# EAGLE library part MCP4728A0-E/UN (library My_Library)
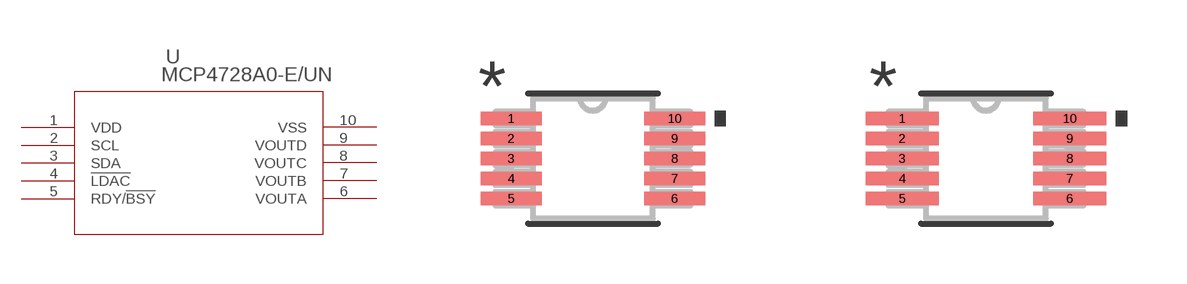
[diagram p36: symbol with the pads of MSOP10_MC_MCH; footprints MSOP10_MC_MCH, MSOP10_MC_MCH-M]

Designator prefix U

## MCP4728A0-E/UN (COPYRIGHT: Copyright (C) 2025 Ultra Librarian. All rights reserved.; MANUFACTURER_PART_NUMBER: MCP4728A0-E/UN; MFR_NAME: Microchip)  [MSOP10_MC_MCH]
1  VDD  pwr
2  SCL  in
3  SDA
4  !LDAC  in
5  RDY/!BSY  out
6  VOUTA  out
7  VOUTB  out
8  VOUTC  out
9  VOUTD  out
10  VSS  pwr

## MCP4728A0-E/UNMSOP10_MC_MCH-M (COPYRIGHT: Copyright (C) 2025 Ultra Librarian. All rights reserved.; MANUFACTURER_PART_NUMBER: MCP4728A0-E/UN; MFR_NAME: Microchip)  [MSOP10_MC_MCH-M]
Pads as for MSOP10_MC_MCH

## MCP4728A0-E/UNMSOP10_MC_MCH-L (COPYRIGHT: Copyright (C) 2025 Ultra Librarian. All rights reserved.; MANUFACTURER_PART_NUMBER: MCP4728A0-E/UN; MFR_NAME: Microchip)  [MSOP10_MC_MCH-L]
Pads as for MSOP10_MC_MCH

## Footprint MSOP10_MC_MCH (pad centres in mm)
smd 1.524 x 0.33: 1 -2.045,1; 2 -2.045,0.5; 3 -2.045,0; 4 -2.045,-0.5; 5 -2.045,-1; 6 2.045,-1; 7 2.045,-0.5; 8 2.045,0; 9 2.045,0.5; 10 2.045,1

## Footprint MSOP10_MC_MCH-M (pad centres in mm)
smd 1.829 x 0.33: 1 -2.095,1; 2 -2.095,0.5; 3 -2.095,0; 4 -2.095,-0.5; 5 -2.095,-1; 6 2.095,-1; 7 2.095,-0.5; 8 2.095,0; 9 2.095,0.5; 10 2.095,1

## Footprint MSOP10_MC_MCH-L (pad centres in mm)
smd 1.219 x 0.279: 1 -1.994,1; 2 -1.994,0.5; 3 -1.994,0; 4 -1.994,-0.5; 5 -1.994,-1; 6 1.994,-1; 7 1.994,-0.5; 8 1.994,0; 9 1.994,0.5; 10 1.994,1